# Altium footprint library DISCRETE_T1.PcbLib: 293 footprints (part 4 of 19)
Each footprint in its own frame and in the unit in brackets; x right, y up, seen from the top. Pads: shape width x height; smd on the part's side, far side on the other; paste and mask are expansions set on the pad; w line width, h text height; cw(c..) or ccw(c..) is an arc to the next point about the centre after c.
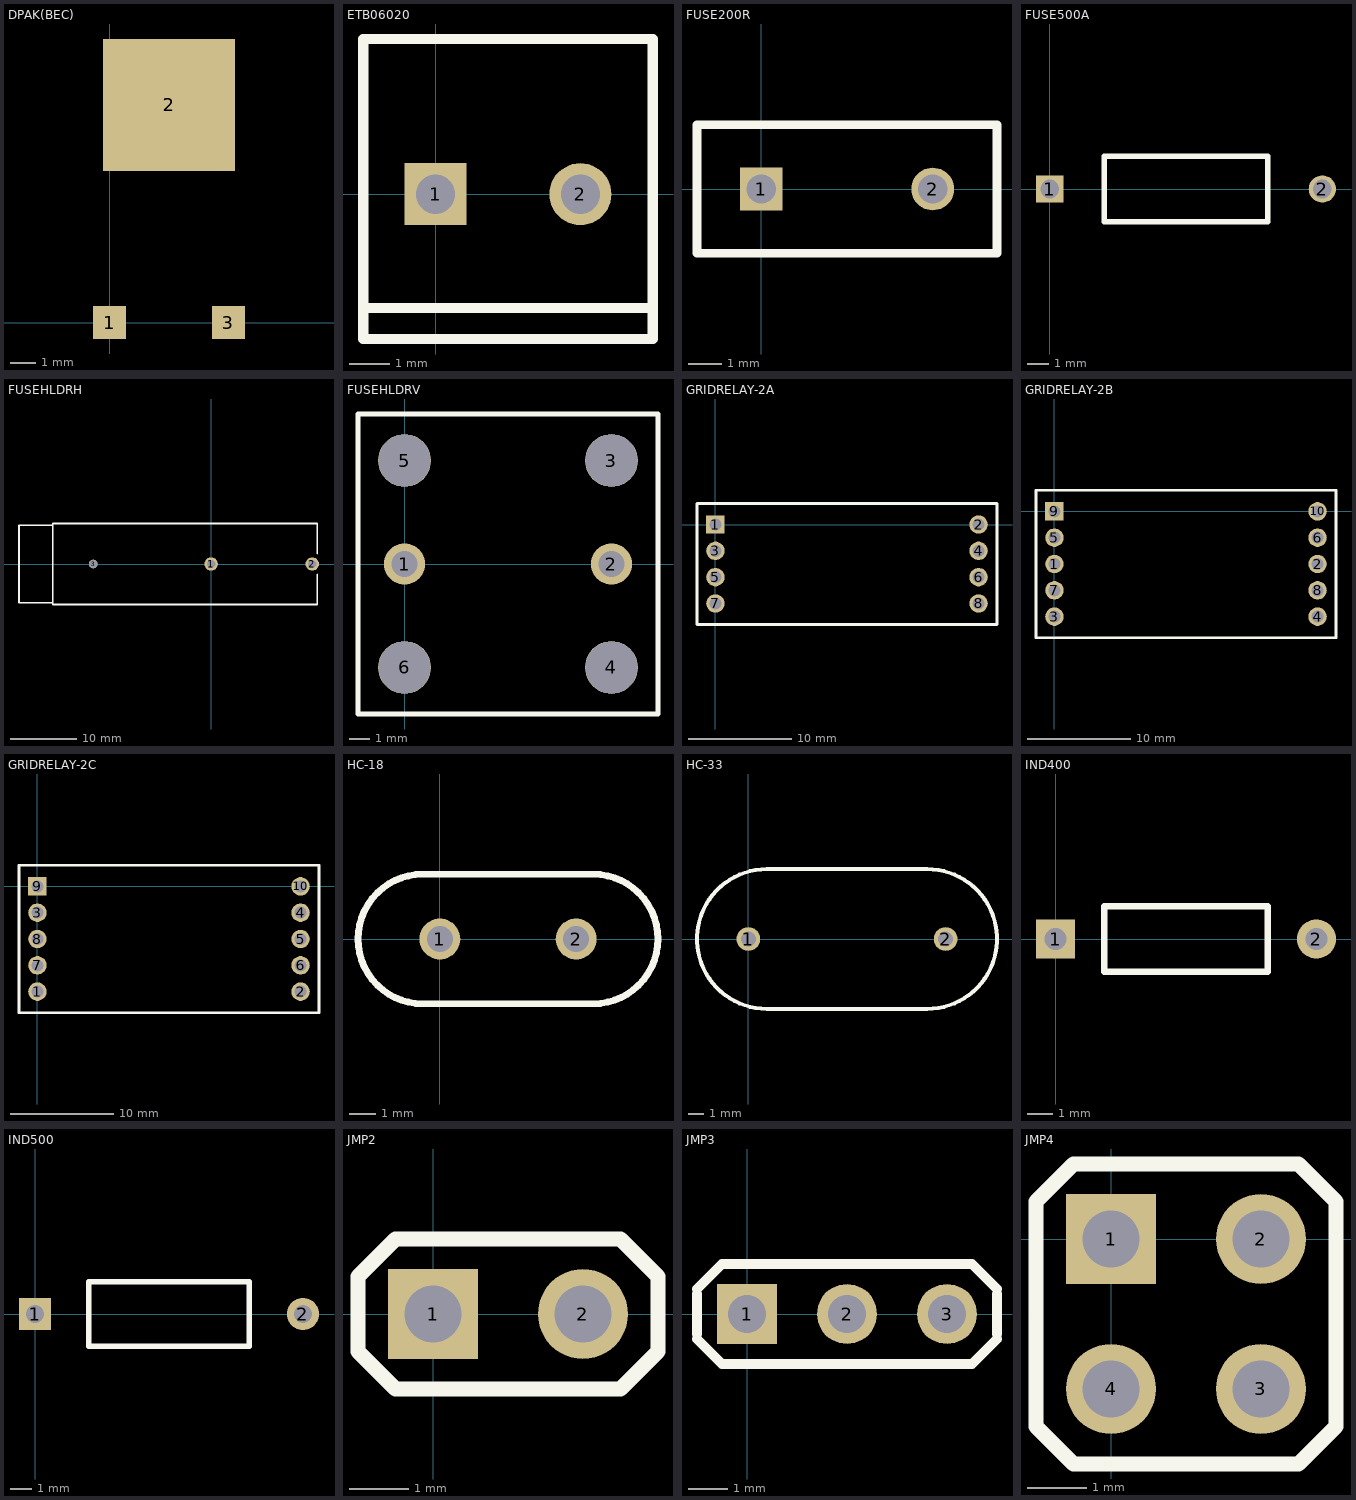
[diagram p3: the footprints below, top view; thin cyan lines are the x and y axes]

## DPAK(BEC) [mil]
pads (3):
  rect 50x50 smd: 1(0,0) 3(180,0)
  rect 200x200 smd: 2(90,330)

## ETB06020 [mil]
pads (2):
  rect 60x60 hole 38: 1(0,0)
  round 60 hole 38: 2(140,0)
Top Overlay:
  lines w10: -70,-110 210,-110 ; -70,-140 210,-140 210,150 -70,150 -70,-140

## FUSE200R [mil]
pads (2):
  rect 50x50 hole 34: 1(0,0)
  round 50 hole 34: 2(200,0)
Top Overlay:
  lines w10: -75,-75 -75,75 275,75 275,-75 -75,-75

## FUSE500A [mil]
pads (2):
  rect 50x50 hole 34: 1(0,0)
  round 50 hole 34: 2(500,0)
Top Overlay:
  lines w10: 100,-60 100,60 400,60 400,-60 100,-60

## FUSEHLDRH [mil]
pads (3):
  round 80 hole 50: 1(0,0) 2(600,0)
  round 52 hole 50: 3(-700,0)
Top Overlay:
  lines w10: 630,-60 630,-240 -940,-240 -940,-230 ; 630,60 630,240 -940,240 -940,230 ; -940,-230 -940,230 ; -940,-230 -1140,-230 -1140,230 -940,230

## FUSEHLDRV [mil]
pads (6):
  round 80 hole 50: 1(0,0) 2(400,0)
  round 102 hole 100: 3(400,200) 4(400,-200) 5(0,200) 6(0,-200)
Top Overlay:
  lines w10: -90,-290 490,-290 490,290 -90,290 -90,-290

## GRIDRELAY-2A [mil]
pads (8):
  rect 70x70 hole 46: 1(0,0)
  round 70 hole 46: 2(1000,0) 3(0,-100) 4(1000,-100) 5(0,-200) 6(1000,-200) 7(0,-300) 8(1000,-300)
Top Overlay:
  lines w10: -70,-380 1070,-380 1070,80 -70,80 -70,-380

## GRIDRELAY-2B [mil]
pads (10):
  round 70 hole 46: 1(0,-200) 2(1000,-200) 3(0,-400) 4(1000,-400) 5(0,-100) 6(1000,-100) 7(0,-300) 8(1000,-300) 10(1000,0)
  rect 70x70 hole 46: 9(0,0)
Top Overlay:
  lines w10: -70,-480 -70,80 1070,80 1070,-480 -70,-480

## GRIDRELAY-2C [mil]
pads (10):
  round 70 hole 46: 1(0,-400) 2(1000,-400) 3(0,-100) 4(1000,-100) 5(1000,-200) 6(1000,-300) 7(0,-300) 8(0,-200) 10(1000,0)
  rect 70x70 hole 46: 9(0,0)
Top Overlay:
  lines w10: -70,-480 1070,-480 1070,80 -70,80 -70,-480

## HC-18 [mil]
pads (2):
  round 60 hole 38: 1(0,0) 2(200,0)
Top Overlay:
  lines w10: -25,-95 cw(c-25,0) -25,95 225,95 cw(c225,0) 225,-95 -25,-95

## HC-33 [mil]
pads (2):
  round 60 hole 38: 1(0,0) 2(500,0)
Top Overlay:
  lines w10: 47,-177 cw(c47,0) 47,177 453,177 cw(c453,0) 453,-177 47,-177

## IND400 [mil]
pads (2):
  rect 60x60 hole 34: 1(0,0)
  round 60 hole 34: 2(400,0)
Top Overlay:
  lines w10: 75,-50 325,-50 325,50 75,50 75,-50

## IND500 [mil]
pads (2):
  rect 60x60 hole 34: 1(0,0)
  round 60 hole 34: 2(500,0)
Top Overlay:
  lines w10: 100,-60 400,-60 400,60 100,60 100,-60

## JMP2 [mil]
pads (2):
  rect 60x60 hole 38: 1(0,0)
  round 60 hole 38: 2(100,0)
Top Overlay:
  lines w10: -50,-25 -25,-50 125,-50 150,-25 150,25 125,50 -25,50 -50,25 -50,-25

## JMP3 [mil]
pads (3):
  rect 60x60 hole 38: 1(0,0)
  round 60 hole 38: 2(100,0) 3(200,0)
Top Overlay:
  lines w10: -50,-25 -25,-50 225,-50 250,-25 ; -50,-20 -50,20 ; -50,25 -25,50 225,50 250,25 ; 250,-20 250,20

## JMP4 [mil]
pads (4):
  rect 60x60 hole 38: 1(0,0)
  round 60 hole 38: 2(100,0) 3(100,-100) 4(0,-100)
Top Overlay:
  lines w10: -50,-125 -25,-150 125,-150 150,-125 150,25 125,50 -25,50 -50,25 -50,-125